# Altium schematic symbol library Microcontrollers.SchLib: 10 symbols
Pins are listed as number, name and electrical type; pins without a type are passive.

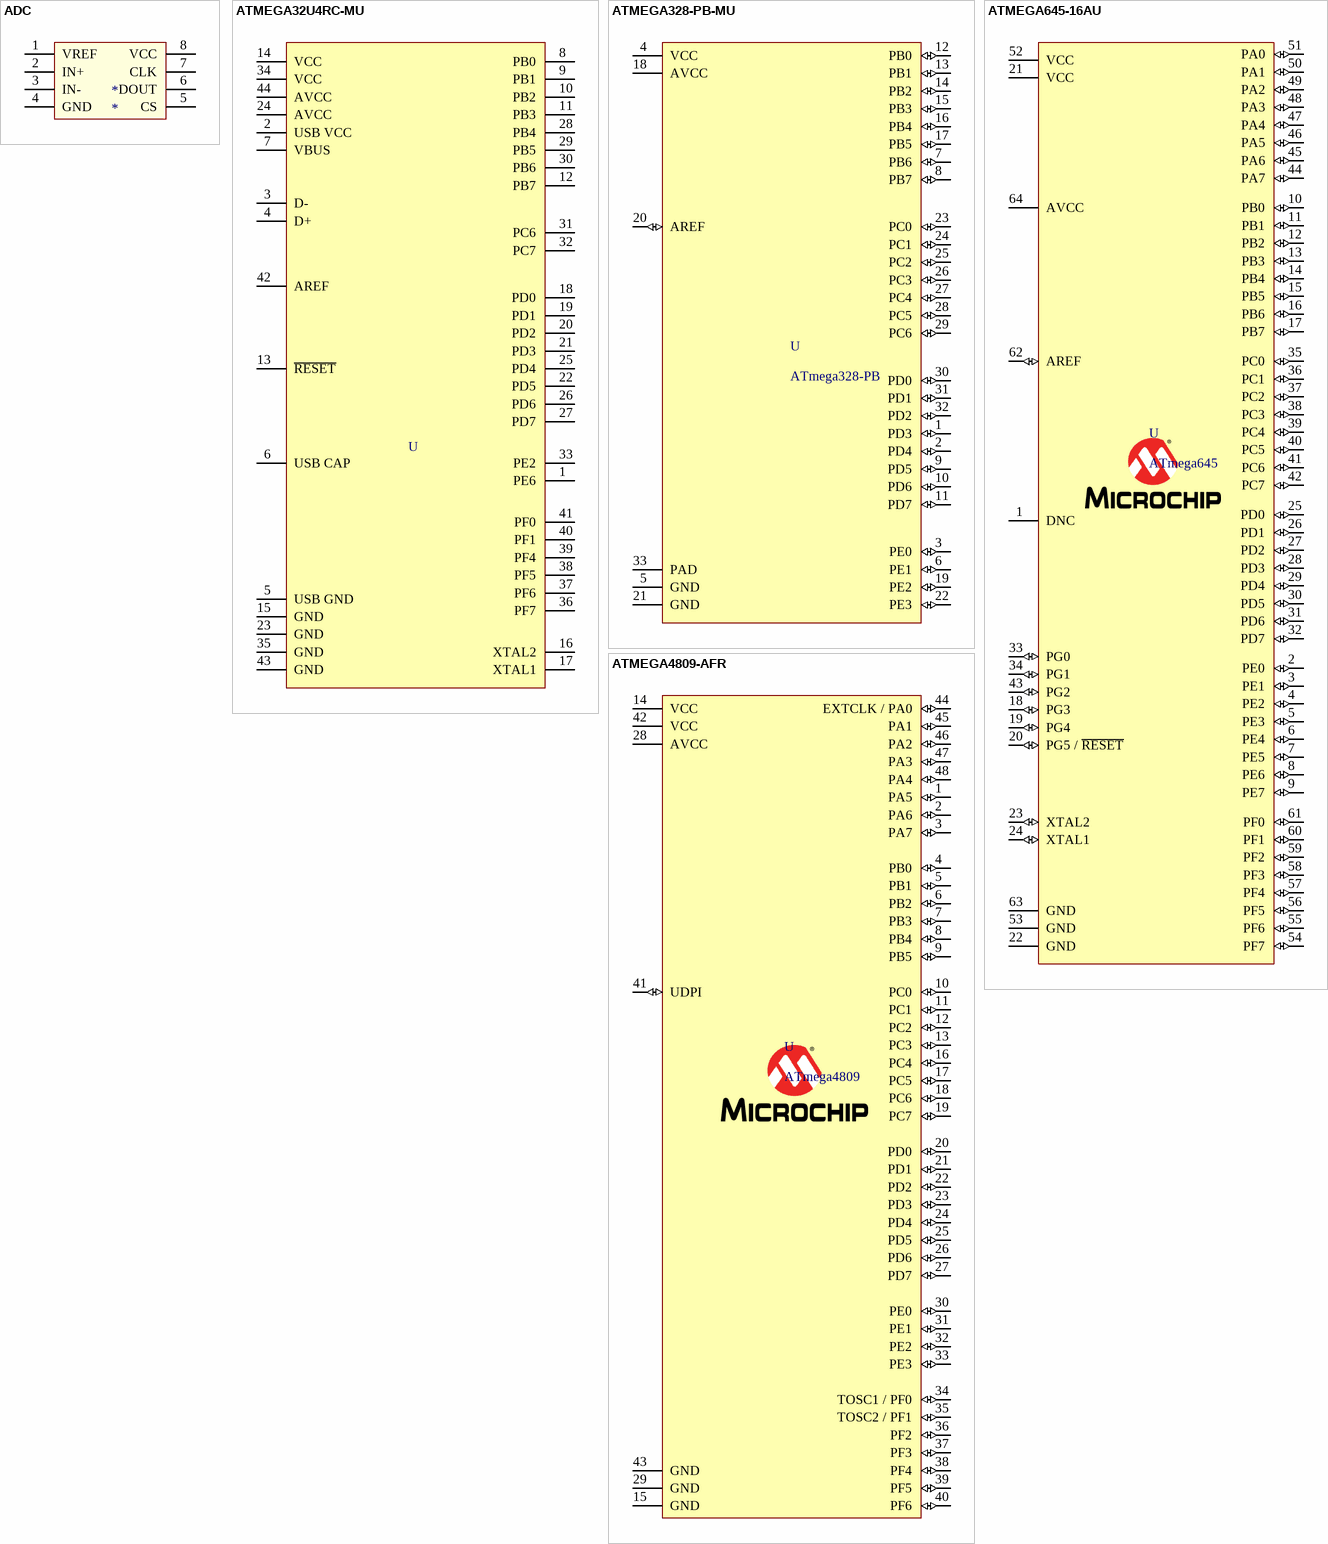
[diagram p0: symbols ADC to ATMEGA4809-AFR]

## ADC
designator *
footprint SOKKEL8
pins: 1 VREF (power) "VCC", 2 IN+ (power) "VCC", 3 IN- (power) "VCC", 4 GND (power) "VCC", 5 CS (power) "VCC", 6 DOUT (power) "VCC", 7 CLK (power) "VCC", 8 VCC (power)

## ATMEGA32U4RC-MU
designator U
ATmega32U4; Supplier Part Number 1: 2857665; Supplier 1: Farnell
footprint ATMEGA32U4RC-MU (QFN, 44-Leads, Body 7.00x7.00mm, Pitch 0.50mm, Thermal Pad 5.20x5.20mm, IPC Medium Density)
pins: 1 PE6, 2 USB VCC, 3 D-, 4 D+, 5 USB GND, 6 USB CAP, 7 VBUS, 8 PB0, 9 PB1, 10 PB2, 11 PB3, 12 PB7, 13 ~{RESET}, 14 VCC, 15 GND, 16 XTAL2, 17 XTAL1, 18 PD0, 19 PD1, 20 PD2, 21 PD3, 22 PD5, 23 GND, 24 AVCC, 25 PD4, 26 PD6, 27 PD7, 28 PB4, 29 PB5, 30 PB6, 31 PC6, 32 PC7, 33 PE2, 34 VCC, 35 GND, 36 PF7, 37 PF6, 38 PF5, 39 PF4, 40 PF1, 41 PF0, 42 AREF, 43 GND, 44 AVCC

## ATMEGA328-PB-MU
designator U, comment ATmega328-PB
ATmega328, 2 UART; Supplier Part Number 1: 2523204; Supplier 1: Farnell
footprint ATMEGA328-PB-AU (QFN, 32-Leads, Body 5.00x5.00mm, Pitch 0.50mm, Thermal Pad 3.10x3.10mm, IPC Medium Density)
pins: 1 PD3 (io), 2 PD4 (io), 3 PE0 (io), 4 VCC (power), 5 GND (power), 6 PE1 (io), 7 PB6 (io), 8 PB7 (io), 9 PD5 (io), 10 PD6 (io), 11 PD7 (io), 12 PB0 (io), 13 PB1 (io), 14 PB2 (io), 15 PB3 (io), 16 PB4 (io), 17 PB5 (io), 18 AVCC (power), 19 PE2 (io), 20 AREF (io), 21 GND (power), 22 PE3 (io), 23 PC0 (io), 24 PC1 (io), 25 PC2 (io), 26 PC3 (io), 27 PC4 (io), 28 PC5 (io), 29 PC6 (io), 30 PD0 (io), 31 PD1 (io), 32 PD2 (io), 33 PAD (power)

## ATMEGA645-16AU
designator U, comment ATmega645
Supplier Part Number 1: 1288345; Supplier 1: Farnell
footprint ATmega645 (TQFP, 64-Leads, Body 14.00x14.00mm, Pitch 0.80mm, IPC Medium Density)
pins: 1 DNC, 2 PE0 (io), 3 PE1 (io), 4 PE2 (io), 5 PE3 (io), 6 PE4 (io), 7 PE5 (io), 8 PE6 (io), 9 PE7 (io), 10 PB0 (io), 11 PB1 (io), 12 PB2 (io), 13 PB3 (io), 14 PB4 (io), 15 PB5 (io), 16 PB6 (io), 17 PB7 (io), 18 PG3 (io), 19 PG4 (io), 20 PG5 / ~{RESET} (io), 21 VCC (power), 22 GND (power), 23 XTAL2 (io), 24 XTAL1 (io), 25 PD0 (io), 26 PD1 (io), 27 PD2 (io), 28 PD3 (io), 29 PD4 (io), 30 PD5 (io), 31 PD6 (io), 32 PD7 (io), 33 PG0 (io), 34 PG1 (io), 35 PC0 (io), 36 PC1 (io), 37 PC2 (io), 38 PC3 (io), 39 PC4 (io), 40 PC5 (io), 41 PC6 (io), 42 PC7 (io), 43 PG2 (io), 44 PA7 (io), 45 PA6 (io), 46 PA5 (io), 47 PA4 (io), 48 PA3 (io), 49 PA2 (io), 50 PA1 (io), 51 PA0 (io), 52 VCC (power), 53 GND (power), 54 PF7 (io), 55 PF6 (io), 56 PF5 (io), 57 PF4 (io), 58 PF3 (io), 59 PF2 (io), 60 PF1 (io), 61 PF0 (io), 62 AREF (io), 63 GND (power), 64 AVCC (power)

## ATMEGA4809-AFR
designator U, comment ATmega4809
ATmega4809 TQFP; Supplier Part Number 1: 2849259; Supplier 1: Farnell
footprint ATMEGA4809-AFR (TSQFP, 48-Leads, Body 7,00x7,00mm, Pitch 0,50mm, IPC Medium Density)
pins: 1 PA5 (io), 2 PA6 (io), 3 PA7 (io), 4 PB0 (io), 5 PB1 (io), 6 PB2 (io), 7 PB3 (io), 8 PB4 (io), 9 PB5 (io), 10 PC0 (io), 11 PC1 (io), 12 PC2 (io), 13 PC3 (io), 14 VCC (power), 15 GND (power), 16 PC4 (io), 17 PC5 (io), 18 PC6 (io), 19 PC7 (io), 20 PD0 (io), 21 PD1 (io), 22 PD2 (io), 23 PD3 (io), 24 PD4 (io), 25 PD5 (io), 26 PD6 (io), 27 PD7 (io), 28 AVCC (power), 29 GND (power), 30 PE0 (io), 31 PE1 (io), 32 PE2 (io), 33 PE3 (io), 34 TOSC1 / PF0 (io), 35 TOSC2 / PF1 (io), 36 PF2 (io), 37 PF3 (io), 38 PF4 (io), 39 PF5 (io), 40 PF6 (io), 41 UDPI (io), 42 VCC (power), 43 GND (power), 44 EXTCLK / PA0 (io), 45 PA1 (io), 46 PA2 (io), 47 PA3 (io), 48 PA4 (io)

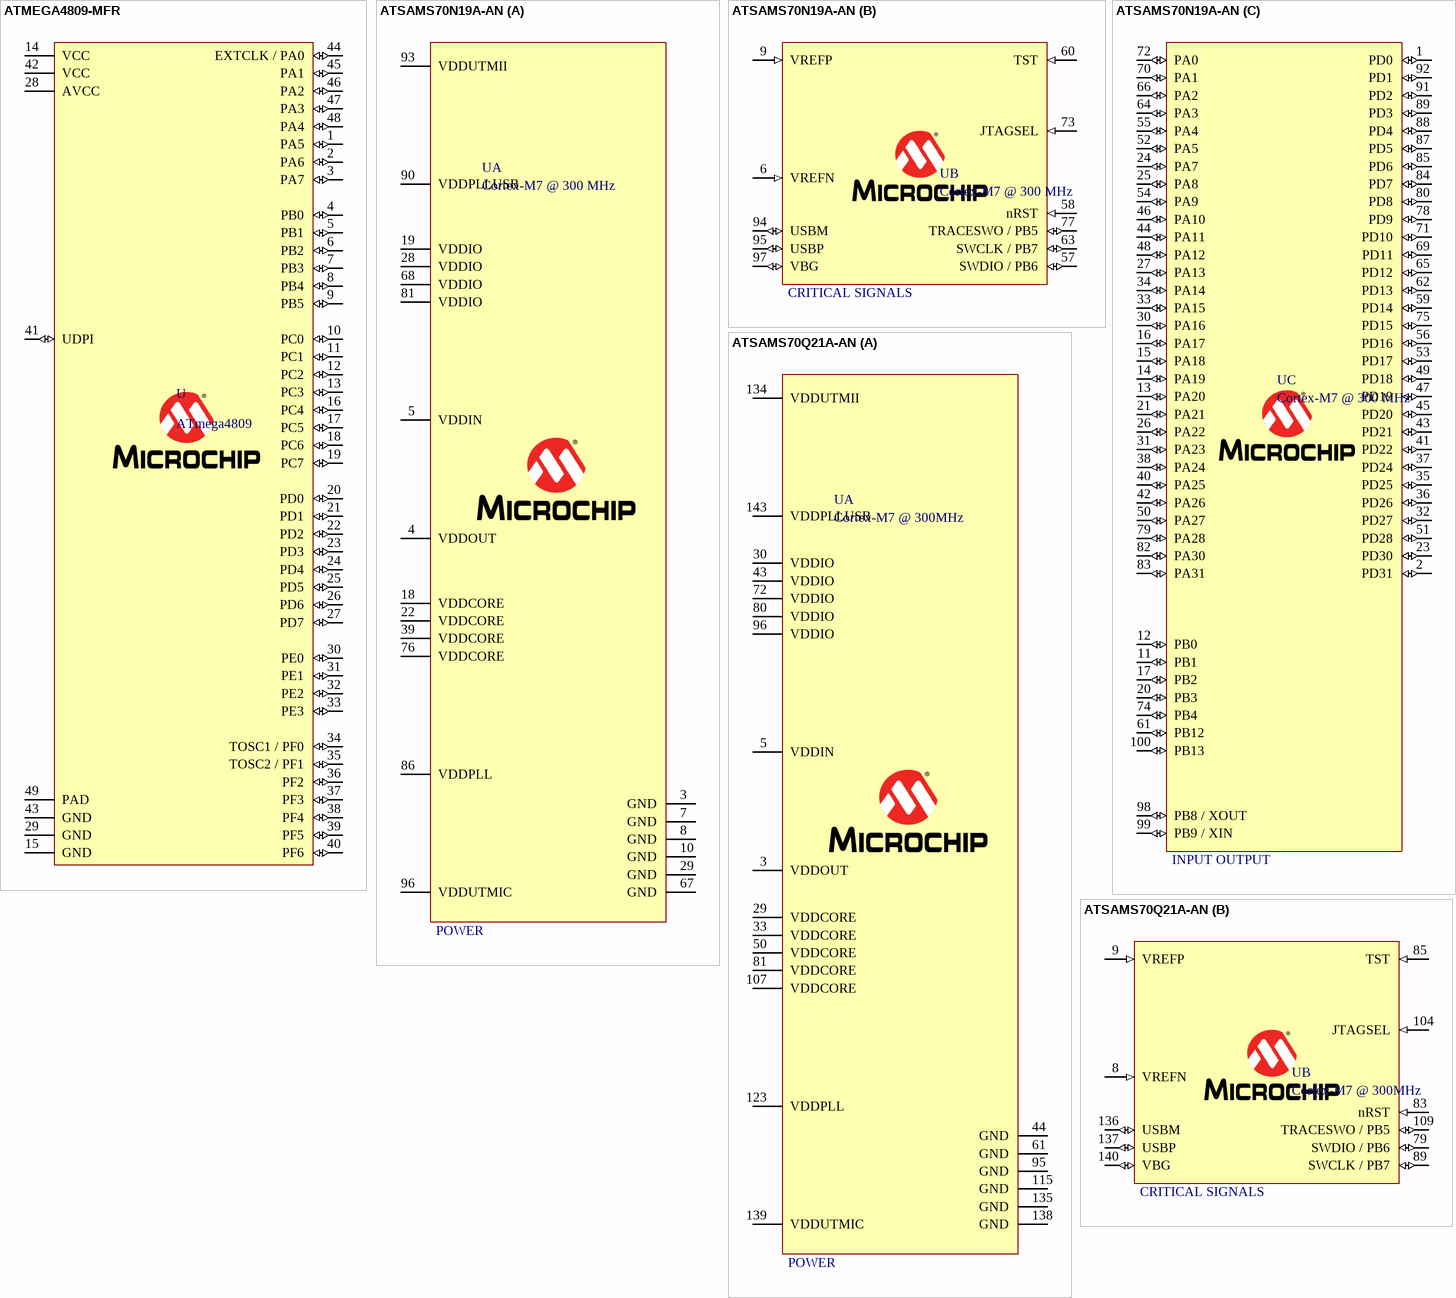
[diagram p1: symbols ATMEGA4809-MFR to ATSAMS70Q21A-AN]

## ATMEGA4809-MFR
designator U, comment ATmega4809
ATmega4809 UQFN; Supplier Part Number 1: 2900707; Supplier 1: Farnell
footprint ATMEGA4809-MFR (QFN, 48-Leads, Body 6.00x6.00mm, Pitch 0.40mm, Thermal Pad 4.60x4.60mm, IPC Medium Density)
pins: 1 PA5 (io), 2 PA6 (io), 3 PA7 (io), 4 PB0 (io), 5 PB1 (io), 6 PB2 (io), 7 PB3 (io), 8 PB4 (io), 9 PB5 (io), 10 PC0 (io), 11 PC1 (io), 12 PC2 (io), 13 PC3 (io), 14 VCC (power), 15 GND (power), 16 PC4 (io), 17 PC5 (io), 18 PC6 (io), 19 PC7 (io), 20 PD0 (io), 21 PD1 (io), 22 PD2 (io), 23 PD3 (io), 24 PD4 (io), 25 PD5 (io), 26 PD6 (io), 27 PD7 (io), 28 AVCC (power), 29 GND (power), 30 PE0 (io), 31 PE1 (io), 32 PE2 (io), 33 PE3 (io), 34 TOSC1 / PF0 (io), 35 TOSC2 / PF1 (io), 36 PF2 (io), 37 PF3 (io), 38 PF4 (io), 39 PF5 (io), 40 PF6 (io), 41 UDPI (io), 42 VCC (power), 43 GND (power), 44 EXTCLK / PA0 (io), 45 PA1 (io), 46 PA2 (io), 47 PA3 (io), 48 PA4 (io), 49 PAD (power)

## ATSAMS70N19A-AN
designator U, comment Cortex-M7 @ 300 MHz
ATSAMS70N19; Supplier Part Number 1: 2484390; Supplier 1: Farnell
footprint ATSAMS70N19A-AN (TSQFP, 100-Leads, Body 14,00x14,00mm, Pitch 0,50mm, IPC Medium Density)
part A pins: 3 GND (power), 4 VDDOUT (power), 5 VDDIN (power), 7 GND (power), 8 GND (power), 10 GND (power), 18 VDDCORE (power), 19 VDDIO (power), 22 VDDCORE (power), 28 VDDIO (power), 29 GND (power), 39 VDDCORE (power), 67 GND (power), 68 VDDIO (power), 76 VDDCORE (power), 81 VDDIO (power), 86 VDDPLL (power), 90 VDDPLLUSB (power), 93 VDDUTMII (power), 96 VDDUTMIC (power)
part B pins: 6 VREFN (in), 9 VREFP (in), 57 SWDIO / PB6 (io), 58 nRST (in), 60 TST (in), 63 SWCLK / PB7 (io), 73 JTAGSEL (in), 77 TRACESWO / PB5 (io), 94 USBM (io), 95 USBP (io), 97 VBG (io)
part C pins: 1 PD0 (io), 2 PD31 (io), 11 PB1 (io), 12 PB0 (io), 13 PA20 (io), 14 PA19 (io), 15 PA18 (io), 16 PA17 (io), 17 PB2 (io), 20 PB3 (io), 21 PA21 (io), 23 PD30 (io), 24 PA7 (io), 25 PA8 (io), 26 PA22 (io), 27 PA13 (io), 30 PA16 (io), 31 PA23 (io), 32 PD27 (io), 33 PA15 (io), 34 PA14 (io), 35 PD25 (io), 36 PD26 (io), 37 PD24 (io), 38 PA24 (io), 40 PA25 (io), 41 PD22 (io), 42 PA26 (io), 43 PD21 (io), 44 PA11 (io), 45 PD20 (io), 46 PA10 (io), 47 PD19 (io), 48 PA12 (io), 49 PD18 (io), 50 PA27 (io), 51 PD28 (io), 52 PA5 (io), 53 PD17 (io), 54 PA9 (io), 55 PA4 (io), 56 PD16 (io), 59 PD14 (io), 61 PB12 (io), 62 PD13 (io), 64 PA3 (io), 65 PD12 (io), 66 PA2 (io), 69 PD11 (io), 70 PA1 (io), 71 PD10 (io), 72 PA0 (io), 74 PB4 (io), 75 PD15 (io), 78 PD9 (io), 79 PA28 (io), 80 PD8 (io), 82 PA30 (io), 83 PA31 (io), 84 PD7 (io), 85 PD6 (io), 87 PD5 (io), 88 PD4 (io), 89 PD3 (io), 91 PD2 (io), 92 PD1 (io), 98 PB8 / XOUT (io), 99 PB9 / XIN (io), 100 PB13 (io)
part A text: POWER
part B text: CRITICAL SIGNALS
part C text: INPUT OUTPUT

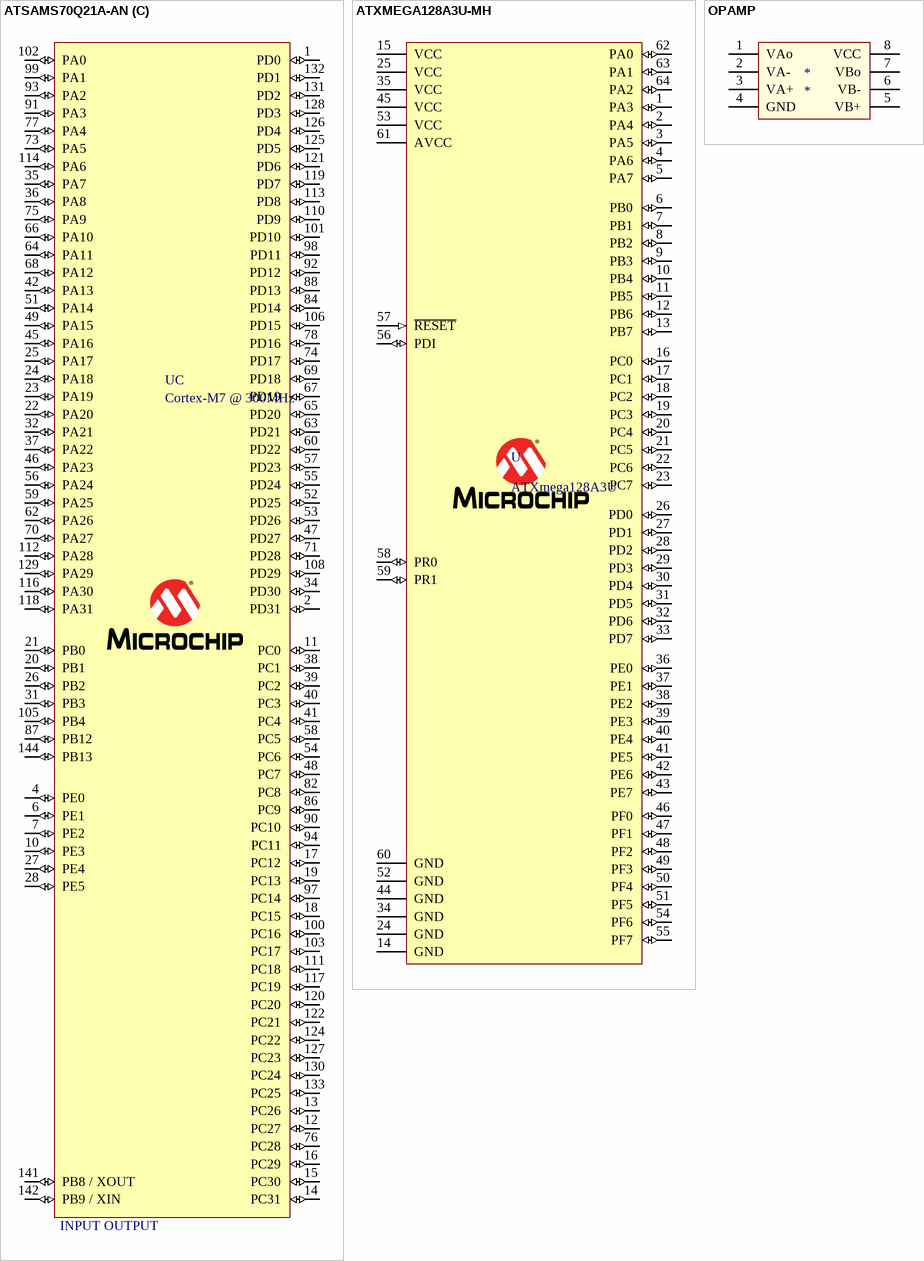
[diagram p2: symbols ATSAMS70Q21A-AN to OPAMP]

## ATSAMS70Q21A-AN
designator U, comment Cortex-M7 @ 300MHz
ATSAMS70Q21; Supplier Part Number 1: 2484397; Supplier 1: Farnell
footprint ATSAMS70Q21A-AN (TSQFP, 144-Leads, Body 20,00x20,00mm, Pitch 0,50mm, IPC Medium Density)
part A pins: 3 VDDOUT (power), 5 VDDIN (power), 29 VDDCORE (power), 30 VDDIO (power), 33 VDDCORE (power), 43 VDDIO (power), 44 GND (power), 50 VDDCORE (power), 61 GND (power), 72 VDDIO (power), 80 VDDIO (power), 81 VDDCORE (power), 95 GND (power), 96 VDDIO (power), 107 VDDCORE (power), 115 GND (power), 123 VDDPLL (power), 134 VDDUTMII (power), 135 GND (power), 138 GND (power), 139 VDDUTMIC (power), 143 VDDPLLUSB (power)
part B pins: 8 VREFN (in), 9 VREFP (in), 79 SWDIO / PB6 (io), 83 nRST (in), 85 TST (in), 89 SWCLK / PB7 (io), 104 JTAGSEL (in), 109 TRACESWO / PB5 (io), 136 USBM (io), 137 USBP (io), 140 VBG (io)
part C pins: 1 PD0 (io), 2 PD31 (io), 4 PE0 (io), 6 PE1 (io), 7 PE2 (io), 10 PE3 (io), 11 PC0 (io), 12 PC27 (io), 13 PC26 (io), 14 PC31 (io), 15 PC30 (io), 16 PC29 (io), 17 PC12 (io), 18 PC15 (io), 19 PC13 (io), 20 PB1 (io), 21 PB0 (io), 22 PA20 (io), 23 PA19 (io), 24 PA18 (io), 25 PA17 (io), 26 PB2 (io), 27 PE4 (io), 28 PE5 (io), 31 PB3 (io), 32 PA21 (io), 34 PD30 (io), 35 PA7 (io), 36 PA8 (io), 37 PA22 (io), 38 PC1 (io), 39 PC2 (io), 40 PC3 (io), 41 PC4 (io), 42 PA13 (io), 45 PA16 (io), 46 PA23 (io), 47 PD27 (io), 48 PC7 (io), 49 PA15 (io), 51 PA14 (io), 52 PD25 (io), 53 PD26 (io), 54 PC6 (io), 55 PD24 (io), 56 PA24 (io), 57 PD23 (io), 58 PC5 (io), 59 PA25 (io), 60 PD22 (io), 62 PA26 (io), 63 PD21 (io), 64 PA11 (io), 65 PD20 (io), 66 PA10 (io), 67 PD19 (io), 68 PA12 (io), 69 PD18 (io), 70 PA27 (io), 71 PD28 (io), 73 PA5 (io), 74 PD17 (io), 75 PA9 (io), 76 PC28 (io), 77 PA4 (io), 78 PD16 (io), 82 PC8 (io), 84 PD14 (io), 86 PC9 (io), 87 PB12 (io), 88 PD13 (io), 90 PC10 (io), 91 PA3 (io), 92 PD12 (io), 93 PA2 (io), 94 PC11 (io), 97 PC14 (io), 98 PD11 (io), 99 PA1 (io), 100 PC16 (io), 101 PD10 (io), 102 PA0 (io), 103 PC17 (io), 105 PB4 (io), 106 PD15 (io), 108 PD29 (io), 110 PD9 (io), 111 PC18 (io), 112 PA28 (io), 113 PD8 (io), 114 PA6 (io), 116 PA30 (io), 117 PC19 (io), 118 PA31 (io), 119 PD7 (io), 120 PC20 (io), 121 PD6 (io), 122 PC21 (io), 124 PC22 (io), 125 PD5 (io), 126 PD4 (io), 127 PC23 (io), 128 PD3 (io), 129 PA29 (io), 130 PC24 (io), 131 PD2 (io), 132 PD1 (io), 133 PC25 (io), 141 PB8 / XOUT (io), 142 PB9 / XIN (io), 144 PB13 (io)
part A text: POWER
part B text: CRITICAL SIGNALS
part C text: INPUT OUTPUT

## ATXMEGA128A3U-MH
designator U, comment ATXmega128A3U
Supplier Part Number 1: 2857672; Supplier 1: Farnell
footprint ATXmega128A3U (QFN, 64-Leads, Body 9.00x9.00mm, Pitch 0.50mm, Thermal Pad 7.65x7.65mm, IPC Low Density)
pins: 1 PA3 (io), 2 PA4 (io), 3 PA5 (io), 4 PA6 (io), 5 PA7 (io), 6 PB0 (io), 7 PB1 (io), 8 PB2 (io), 9 PB3 (io), 10 PB4 (io), 11 PB5 (io), 12 PB6 (io), 13 PB7 (io), 14 GND (power), 15 VCC (power), 16 PC0 (io), 17 PC1 (io), 18 PC2 (io), 19 PC3 (io), 20 PC4 (io), 21 PC5 (io), 22 PC6 (io), 23 PC7 (io), 24 GND (power), 25 VCC (power), 26 PD0 (io), 27 PD1 (io), 28 PD2 (io), 29 PD3 (io), 30 PD4 (io), 31 PD5 (io), 32 PD6 (io), 33 PD7 (io), 34 GND (power), 35 VCC (power), 36 PE0 (io), 37 PE1 (io), 38 PE2 (io), 39 PE3 (io), 40 PE4 (io), 41 PE5 (io), 42 PE6 (io), 43 PE7 (io), 44 GND (power), 45 VCC (power), 46 PF0 (io), 47 PF1 (io), 48 PF2 (io), 49 PF3 (io), 50 PF4 (io), 51 PF5 (io), 52 GND (power), 53 VCC (power), 54 PF6 (io), 55 PF7 (io), 56 PDI (io), 57 ~{RESET} (in), 58 PR0 (io), 59 PR1 (io), 60 GND (power), 61 AVCC (power), 62 PA0 (io), 63 PA1 (io), 64 PA2 (io)

## OPAMP
designator *
footprint SOKKEL8
pins: 1 VAo (power) "VCC", 2 VA- (power) "VCC", 3 VA+ (power) "VCC", 4 GND (power) "VCC", 5 VB+ (power) "VCC", 6 VB- (power) "VCC", 7 VBo (power) "VCC", 8 VCC (power)